# Altium integrated library TI Amplifiers and Linear Operational Amplifier High Speed.IntLib: 1100 symbols (part 22 of 44)
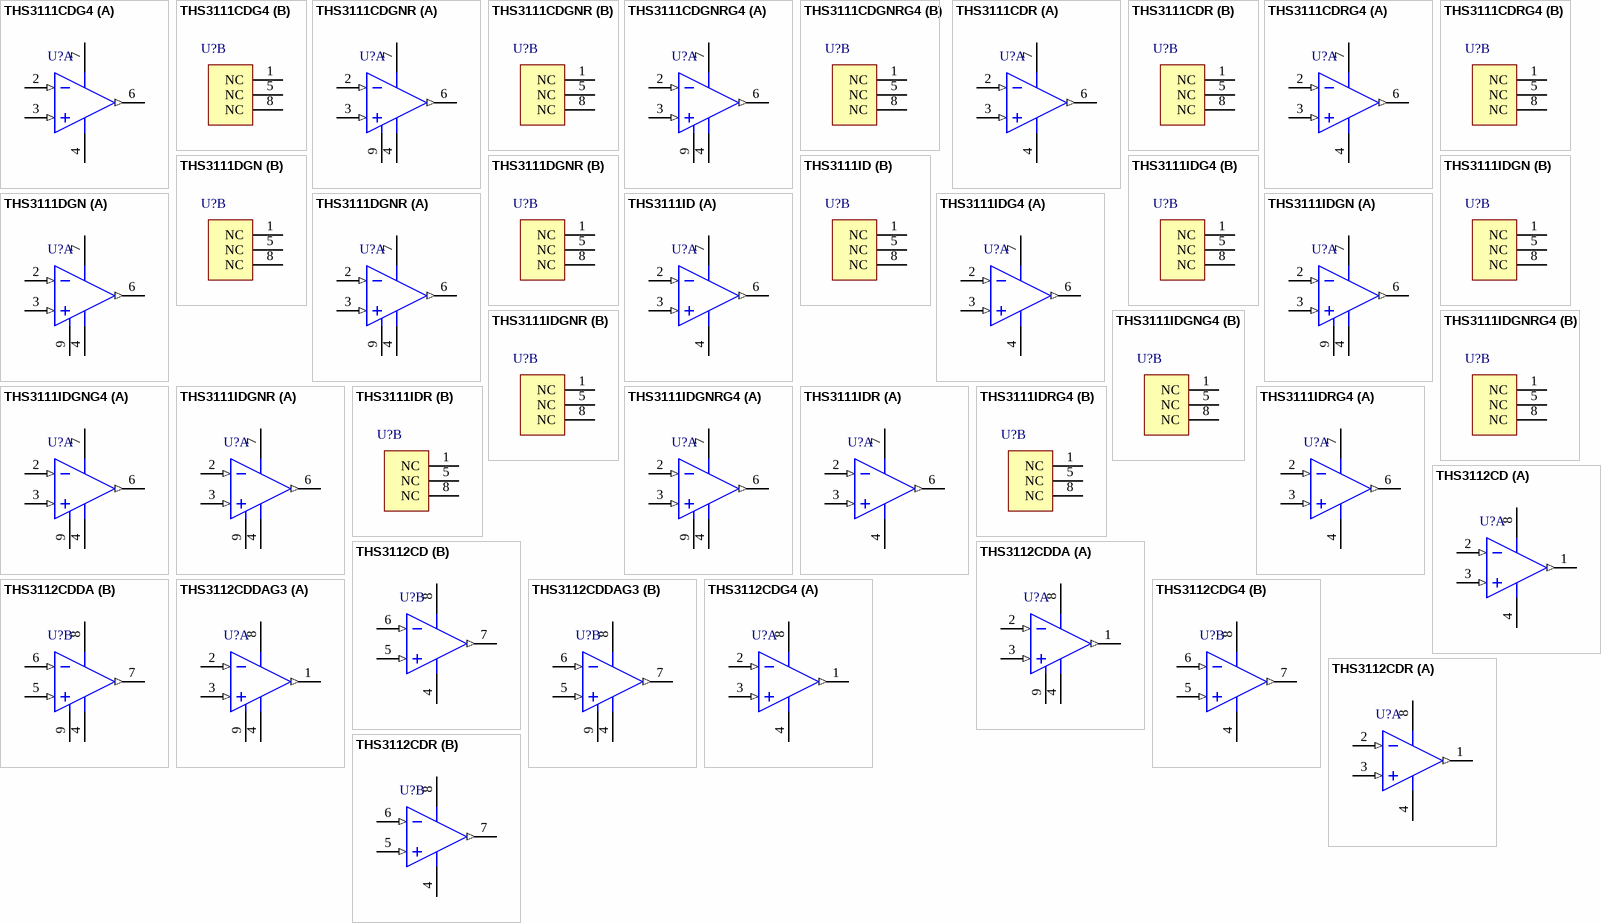
[diagram p72: symbols THS3111CDG4 to THS3112CDR]

## THS3111CDG4
designator U?
Single, Low Noise, High Voltage Current-Feedback Amplifier, 10 to 30 V, 0 to 70 degC, 8-pin SOIC (D8), Green (RoHS & no Sb/Br); Manufacturer: Texas Instruments; PartNumber: THS3111CDG4; 2nd Harmonic(dBc): 52; 3rd Harmonic(dBc): 48; @ MHz: 10; Acl, min stable gain(V/V): 1; BW @ Acl(MHz): 100; Diff Gain(%): 0.011; Diff Phase(deg): 0.029; Iib(Max)(nA): 6000; Io(Typ)(mA): 260; Iq per channel(Max)(mA): 7.5; Settling Time (0.1%)(Typ)(ns): 250; Slew Rate(Typ)(V/us): 1300; Sub Family: High Output Current Amplifier (>=50mA), High Speed Amplifier (>=50MHz), High Supply Voltage Amplifier (>=30V); THD (Fc is 1 MHz)(Typ)(dB): -78; Vio(Max)(mV): 8; Vn at Flatband(Typ)(nV/rtHz): 3; Vs(Max)(V): 30; DatasheetVersion: SLOS422E; PackageVersion: 4040047-3/M, 06/2011; PackageReference: D8; PackageDescription: 8-Pin Plastic Small Outline, Body 4.9 x 3.9 mm, Pitch 1.27 mm; Supplier 1: Digi-Key; Supplier Part Number 1: THS3111CDG4-ND; Supplier 2: Mouser; Supplier Part Number 2: 595-THS3111CDG4; Eco-Plan: Green (RoHS & no Sb/Br); Number of Channels: 1; Vs(Min)(V): 10; Mounting Technology: Surface Mount; Code_JEDEC: MS-012; ComponentLink1Description: Manufacturer URL; ComponentLink1URL: http://www.ti.com/; ComponentLink2Description: Datasheet; ComponentLink2URL: http://www.ti.com/general/docs/lit/getliterature.tsp?genericPartNumber=THS3111&fileType=pdf; ComponentLink3Description: Package Specification; ComponentLink3URL: http://www.ti.com/litv/pdf/msoi002j
footprint TI-D8_N (SOIC, 8-Leads, Body 4.9x3.9mm, Pitch 1.27mm, IPC Medium Density)
footprint TI-D8_L (SOIC, 8-Leads, Body 4.9x3.9mm, Pitch 1.27mm, IPC High Density)
footprint TI-D8_M (SOIC, 8-Leads, Body 4.9x3.9mm, Pitch 1.27mm, IPC Low Density)
part A pins: 2 VIN- (in), 3 VIN+ (in), 4 VS- (power), 6 VOUT (out), 7 VS+ (power)
part B pins: 1 NC, 5 NC, 8 NC

## THS3111CDGNR
designator U?
Single, Low Noise, High Voltage Current-Feedback Amplifier, 10 to 30 V, 0 to 70 degC, 8-pin SOP (DGN8), Green (RoHS & no Sb/Br); Manufacturer: Texas Instruments; PartNumber: THS3111CDGNR; 2nd Harmonic(dBc): 52; 3rd Harmonic(dBc): 48; @ MHz: 10; Acl, min stable gain(V/V): 1; BW @ Acl(MHz): 100; Diff Gain(%): 0.011; Diff Phase(deg): 0.029; Iib(Max)(nA): 6000; Io(Typ)(mA): 260; Iq per channel(Max)(mA): 7.5; Settling Time (0.1%)(Typ)(ns): 250; Slew Rate(Typ)(V/us): 1300; Sub Family: High Output Current Amplifier (>=50mA), High Speed Amplifier (>=50MHz), High Supply Voltage Amplifier (>=30V); THD (Fc is 1 MHz)(Typ)(dB): -78; Vio(Max)(mV): 8; Vn at Flatband(Typ)(nV/rtHz): 3; Vs(Max)(V): 30; DatasheetVersion: SLOS422E; PackageVersion: 4073271/F, 05/2011; PackageReference: DGN8-1760X1425TP; PackageDescription: 8-pin Plastic Small Outline, Body 3 x 3 mm, Pitch 0.65 mm; Supplier 1: Digi-Key; Supplier Part Number 1: THS3111CDGNR-ND; Supplier 2: Mouser; Supplier Part Number 2: 595-THS3111CDGNR; Eco-Plan: Green (RoHS & no Sb/Br); Number of Channels: 1; Vs(Min)(V): 10; Mounting Technology: Surface Mount; Code_JEDEC: MO-187; ComponentLink1Description: Manufacturer URL; ComponentLink1URL: http://www.ti.com/; ComponentLink2Description: Datasheet; ComponentLink2URL: http://www.ti.com/general/docs/lit/getliterature.tsp?genericPartNumber=THS3111&fileType=pdf; ComponentLink3Description: Package Specification; ComponentLink3URL: http://www.ti.com/litv/pdf/mpds046e
footprint TI-DGN8-1760X1425TP_N (SOP, 8-Leads, Body 3x3mm, Pitch 0.65mm, Thermal Pad 1.76x1.425mm, IPC Medium Density)
footprint TI-DGN8-1760X1425TP_L (SOP, 8-Leads, Body 3x3mm, Pitch 0.65mm, Thermal Pad 1.76x1.425mm, IPC High Density)
footprint TI-DGN8-1760X1425TP_M (SOP, 8-Leads, Body 3x3mm, Pitch 0.65mm, Thermal Pad 1.76 x 1.425 mm, IPC Low Density)
part A pins: 2 VIN- (in), 3 VIN+ (in), 4 VS- (power), 6 VOUT (out), 7 VS+ (power), 9 EP (power)
part B pins: 1 NC, 5 NC, 8 NC

## THS3111CDGNRG4
designator U?
Single, Low Noise, High Voltage Current-Feedback Amplifier, 10 to 30 V, 0 to 70 degC, 8-pin SOP (DGN8), Green (RoHS & no Sb/Br); Manufacturer: Texas Instruments; PartNumber: THS3111CDGNRG4; 2nd Harmonic(dBc): 52; 3rd Harmonic(dBc): 48; @ MHz: 10; Acl, min stable gain(V/V): 1; BW @ Acl(MHz): 100; Diff Gain(%): 0.011; Diff Phase(deg): 0.029; Iib(Max)(nA): 6000; Io(Typ)(mA): 260; Iq per channel(Max)(mA): 7.5; Settling Time (0.1%)(Typ)(ns): 250; Slew Rate(Typ)(V/us): 1300; Sub Family: High Output Current Amplifier (>=50mA), High Speed Amplifier (>=50MHz), High Supply Voltage Amplifier (>=30V); THD (Fc is 1 MHz)(Typ)(dB): -78; Vio(Max)(mV): 8; Vn at Flatband(Typ)(nV/rtHz): 3; Vs(Max)(V): 30; DatasheetVersion: SLOS422E; PackageVersion: 4073271/F, 05/2011; PackageReference: DGN8-1760X1425TP; PackageDescription: 8-pin Plastic Small Outline, Body 3 x 3 mm, Pitch 0.65 mm; Supplier 1: Digi-Key; Supplier Part Number 1: THS3111CDGNRG4-ND; Supplier 2: Mouser; Supplier Part Number 2: 595-THS3111CDGNRG4; Eco-Plan: Green (RoHS & no Sb/Br); Number of Channels: 1; Vs(Min)(V): 10; Mounting Technology: Surface Mount; Code_JEDEC: MO-187; ComponentLink1Description: Manufacturer URL; ComponentLink1URL: http://www.ti.com/; ComponentLink2Description: Datasheet; ComponentLink2URL: http://www.ti.com/general/docs/lit/getliterature.tsp?genericPartNumber=THS3111&fileType=pdf; ComponentLink3Description: Package Specification; ComponentLink3URL: http://www.ti.com/litv/pdf/mpds046e
footprint TI-DGN8-1760X1425TP_N (SOP, 8-Leads, Body 3x3mm, Pitch 0.65mm, Thermal Pad 1.76x1.425mm, IPC Medium Density)
footprint TI-DGN8-1760X1425TP_L (SOP, 8-Leads, Body 3x3mm, Pitch 0.65mm, Thermal Pad 1.76x1.425mm, IPC High Density)
footprint TI-DGN8-1760X1425TP_M (SOP, 8-Leads, Body 3x3mm, Pitch 0.65mm, Thermal Pad 1.76 x 1.425 mm, IPC Low Density)
part A pins: 2 VIN- (in), 3 VIN+ (in), 4 VS- (power), 6 VOUT (out), 7 VS+ (power), 9 EP (power)
part B pins: 1 NC, 5 NC, 8 NC

## THS3111CDR
designator U?
Single, Low Noise, High Voltage Current-Feedback Amplifier, 10 to 30 V, 0 to 70 degC, 8-pin SOIC (D8), Green (RoHS & no Sb/Br); Manufacturer: Texas Instruments; PartNumber: THS3111CDR; 2nd Harmonic(dBc): 52; 3rd Harmonic(dBc): 48; @ MHz: 10; Acl, min stable gain(V/V): 1; BW @ Acl(MHz): 100; Diff Gain(%): 0.011; Diff Phase(deg): 0.029; Iib(Max)(nA): 6000; Io(Typ)(mA): 260; Iq per channel(Max)(mA): 7.5; Settling Time (0.1%)(Typ)(ns): 250; Slew Rate(Typ)(V/us): 1300; Sub Family: High Output Current Amplifier (>=50mA), High Speed Amplifier (>=50MHz), High Supply Voltage Amplifier (>=30V); THD (Fc is 1 MHz)(Typ)(dB): -78; Vio(Max)(mV): 8; Vn at Flatband(Typ)(nV/rtHz): 3; Vs(Max)(V): 30; DatasheetVersion: SLOS422E; PackageVersion: 4040047-3/M, 06/2011; PackageReference: D8; PackageDescription: 8-Pin Plastic Small Outline, Body 4.9 x 3.9 mm, Pitch 1.27 mm; Supplier 1: Digi-Key; Supplier Part Number 1: THS3111CDR-ND; Supplier 2: Mouser; Supplier Part Number 2: 595-THS3111CDR; Eco-Plan: Green (RoHS & no Sb/Br); Number of Channels: 1; Vs(Min)(V): 10; Mounting Technology: Surface Mount; Code_JEDEC: MS-012; ComponentLink1Description: Manufacturer URL; ComponentLink1URL: http://www.ti.com/; ComponentLink2Description: Datasheet; ComponentLink2URL: http://www.ti.com/general/docs/lit/getliterature.tsp?genericPartNumber=THS3111&fileType=pdf; ComponentLink3Description: Package Specification; ComponentLink3URL: http://www.ti.com/litv/pdf/msoi002j
footprint TI-D8_N (SOIC, 8-Leads, Body 4.9x3.9mm, Pitch 1.27mm, IPC Medium Density)
footprint TI-D8_L (SOIC, 8-Leads, Body 4.9x3.9mm, Pitch 1.27mm, IPC High Density)
footprint TI-D8_M (SOIC, 8-Leads, Body 4.9x3.9mm, Pitch 1.27mm, IPC Low Density)
part A pins: 2 VIN- (in), 3 VIN+ (in), 4 VS- (power), 6 VOUT (out), 7 VS+ (power)
part B pins: 1 NC, 5 NC, 8 NC

## THS3111CDRG4
designator U?
Single, Low Noise, High Voltage Current-Feedback Amplifier, 10 to 30 V, 0 to 70 degC, 8-pin SOIC (D8), Green (RoHS & no Sb/Br); Manufacturer: Texas Instruments; PartNumber: THS3111CDRG4; 2nd Harmonic(dBc): 52; 3rd Harmonic(dBc): 48; @ MHz: 10; Acl, min stable gain(V/V): 1; BW @ Acl(MHz): 100; Diff Gain(%): 0.011; Diff Phase(deg): 0.029; Iib(Max)(nA): 6000; Io(Typ)(mA): 260; Iq per channel(Max)(mA): 7.5; Settling Time (0.1%)(Typ)(ns): 250; Slew Rate(Typ)(V/us): 1300; Sub Family: High Output Current Amplifier (>=50mA), High Speed Amplifier (>=50MHz), High Supply Voltage Amplifier (>=30V); THD (Fc is 1 MHz)(Typ)(dB): -78; Vio(Max)(mV): 8; Vn at Flatband(Typ)(nV/rtHz): 3; Vs(Max)(V): 30; DatasheetVersion: SLOS422E; PackageVersion: 4040047-3/M, 06/2011; PackageReference: D8; PackageDescription: 8-Pin Plastic Small Outline, Body 4.9 x 3.9 mm, Pitch 1.27 mm; Supplier 1: Digi-Key; Supplier Part Number 1: THS3111CDRG4-ND; Supplier 2: Mouser; Supplier Part Number 2: 595-THS3111CDRG4; Eco-Plan: Green (RoHS & no Sb/Br); Number of Channels: 1; Vs(Min)(V): 10; Mounting Technology: Surface Mount; Code_JEDEC: MS-012; ComponentLink1Description: Manufacturer URL; ComponentLink1URL: http://www.ti.com/; ComponentLink2Description: Datasheet; ComponentLink2URL: http://www.ti.com/general/docs/lit/getliterature.tsp?genericPartNumber=THS3111&fileType=pdf; ComponentLink3Description: Package Specification; ComponentLink3URL: http://www.ti.com/litv/pdf/msoi002j
footprint TI-D8_N (SOIC, 8-Leads, Body 4.9x3.9mm, Pitch 1.27mm, IPC Medium Density)
footprint TI-D8_L (SOIC, 8-Leads, Body 4.9x3.9mm, Pitch 1.27mm, IPC High Density)
footprint TI-D8_M (SOIC, 8-Leads, Body 4.9x3.9mm, Pitch 1.27mm, IPC Low Density)
part A pins: 2 VIN- (in), 3 VIN+ (in), 4 VS- (power), 6 VOUT (out), 7 VS+ (power)
part B pins: 1 NC, 5 NC, 8 NC

## THS3111DGN
designator U?
Single, Low Noise, High Voltage Current-Feedback Amplifier, 10 to 30 V, -40 to 85 degC, 8-pin SOP (DGN8); Manufacturer: Texas Instruments; PartNumber: THS3111DGN; 2nd Harmonic(dBc): 52; 3rd Harmonic(dBc): 48; @ MHz: 10; Acl, min stable gain(V/V): 1; BW @ Acl(MHz): 100; Diff Gain(%): 0.011; Diff Phase(deg): 0.029; Iib(Max)(nA): 6000; Io(Typ)(mA): 260; Iq per channel(Max)(mA): 7.5; Settling Time (0.1%)(Typ)(ns): 250; Slew Rate(Typ)(V/us): 1300; Sub Family: High Output Current Amplifier (>=50mA), High Speed Amplifier (>=50MHz), High Supply Voltage Amplifier (>=30V); THD (Fc is 1 MHz)(Typ)(dB): -78; Vio(Max)(mV): 8; Vn at Flatband(Typ)(nV/rtHz): 3; Vs(Max)(V): 30; DatasheetVersion: SLOS422E; PackageVersion: 4073271/F, 05/2011; PackageReference: DGN8-1760X1425TP; PackageDescription: 8-pin Plastic Small Outline, Body 3 x 3 mm, Pitch 0.65 mm; Supplier 1: Mouser; Supplier Part Number 1: N/A; Number of Channels: 1; Vs(Min)(V): 10; Mounting Technology: Surface Mount; Code_JEDEC: MO-187; ComponentLink1Description: Manufacturer URL; ComponentLink1URL: http://www.ti.com/; ComponentLink2Description: Datasheet; ComponentLink2URL: http://www.ti.com/general/docs/lit/getliterature.tsp?genericPartNumber=THS3111&fileType=pdf; ComponentLink3Description: Package Specification; ComponentLink3URL: http://www.ti.com/litv/pdf/mpds046e
footprint TI-DGN8-1760X1425TP_N (SOP, 8-Leads, Body 3x3mm, Pitch 0.65mm, Thermal Pad 1.76x1.425mm, IPC Medium Density)
footprint TI-DGN8-1760X1425TP_L (SOP, 8-Leads, Body 3x3mm, Pitch 0.65mm, Thermal Pad 1.76x1.425mm, IPC High Density)
footprint TI-DGN8-1760X1425TP_M (SOP, 8-Leads, Body 3x3mm, Pitch 0.65mm, Thermal Pad 1.76 x 1.425 mm, IPC Low Density)
part A pins: 2 VIN- (in), 3 VIN+ (in), 4 VS- (power), 6 VOUT (out), 7 VS+ (power), 9 EP (power)
part B pins: 1 NC, 5 NC, 8 NC

## THS3111DGNR
designator U?
Single, Low Noise, High Voltage Current-Feedback Amplifier, 10 to 30 V, -40 to 85 degC, 8-pin SOP (DGN8); Manufacturer: Texas Instruments; PartNumber: THS3111DGNR; 2nd Harmonic(dBc): 52; 3rd Harmonic(dBc): 48; @ MHz: 10; Acl, min stable gain(V/V): 1; BW @ Acl(MHz): 100; Diff Gain(%): 0.011; Diff Phase(deg): 0.029; Iib(Max)(nA): 6000; Io(Typ)(mA): 260; Iq per channel(Max)(mA): 7.5; Settling Time (0.1%)(Typ)(ns): 250; Slew Rate(Typ)(V/us): 1300; Sub Family: High Output Current Amplifier (>=50mA), High Speed Amplifier (>=50MHz), High Supply Voltage Amplifier (>=30V); THD (Fc is 1 MHz)(Typ)(dB): -78; Vio(Max)(mV): 8; Vn at Flatband(Typ)(nV/rtHz): 3; Vs(Max)(V): 30; DatasheetVersion: SLOS422E; PackageVersion: 4073271/F, 05/2011; PackageReference: DGN8-1760X1425TP; PackageDescription: 8-pin Plastic Small Outline, Body 3 x 3 mm, Pitch 0.65 mm; Supplier 1: Mouser; Supplier Part Number 1: N/A; Number of Channels: 1; Vs(Min)(V): 10; Mounting Technology: Surface Mount; Code_JEDEC: MO-187; ComponentLink1Description: Manufacturer URL; ComponentLink1URL: http://www.ti.com/; ComponentLink2Description: Datasheet; ComponentLink2URL: http://www.ti.com/general/docs/lit/getliterature.tsp?genericPartNumber=THS3111&fileType=pdf; ComponentLink3Description: Package Specification; ComponentLink3URL: http://www.ti.com/litv/pdf/mpds046e
footprint TI-DGN8-1760X1425TP_N (SOP, 8-Leads, Body 3x3mm, Pitch 0.65mm, Thermal Pad 1.76x1.425mm, IPC Medium Density)
footprint TI-DGN8-1760X1425TP_L (SOP, 8-Leads, Body 3x3mm, Pitch 0.65mm, Thermal Pad 1.76x1.425mm, IPC High Density)
footprint TI-DGN8-1760X1425TP_M (SOP, 8-Leads, Body 3x3mm, Pitch 0.65mm, Thermal Pad 1.76 x 1.425 mm, IPC Low Density)
part A pins: 2 VIN- (in), 3 VIN+ (in), 4 VS- (power), 6 VOUT (out), 7 VS+ (power), 9 EP (power)
part B pins: 1 NC, 5 NC, 8 NC

## THS3111ID
designator U?
Single, Low Noise, High Voltage Current-Feedback Amplifier, 10 to 30 V, -40 to 85 degC, 8-pin SOIC (D8), Green (RoHS & no Sb/Br); Manufacturer: Texas Instruments; PartNumber: THS3111ID; 2nd Harmonic(dBc): 52; 3rd Harmonic(dBc): 48; @ MHz: 10; Acl, min stable gain(V/V): 1; BW @ Acl(MHz): 100; Diff Gain(%): 0.011; Diff Phase(deg): 0.029; Iib(Max)(nA): 6000; Io(Typ)(mA): 260; Iq per channel(Max)(mA): 7.5; Settling Time (0.1%)(Typ)(ns): 250; Slew Rate(Typ)(V/us): 1300; Sub Family: High Output Current Amplifier (>=50mA), High Speed Amplifier (>=50MHz), High Supply Voltage Amplifier (>=30V); THD (Fc is 1 MHz)(Typ)(dB): -78; Vio(Max)(mV): 8; Vn at Flatband(Typ)(nV/rtHz): 3; Vs(Max)(V): 30; DatasheetVersion: SLOS422E; PackageVersion: 4040047-3/M, 06/2011; PackageReference: D8; PackageDescription: 8-Pin Plastic Small Outline, Body 4.9 x 3.9 mm, Pitch 1.27 mm; Supplier 1: Digi-Key; Supplier Part Number 1: 296-15770-5-ND; Supplier 2: Farnell; Supplier Part Number 2: 1534759; Supplier 3: Newark; Supplier Part Number 3: 87H2778; Supplier 4: Mouser; Supplier Part Number 4: 595-THS3111ID; Eco-Plan: Green (RoHS & no Sb/Br); Number of Channels: 1; Vs(Min)(V): 10; Mounting Technology: Surface Mount; Code_JEDEC: MS-012; ComponentLink1Description: Manufacturer URL; ComponentLink1URL: http://www.ti.com/; ComponentLink2Description: Datasheet; ComponentLink2URL: http://www.ti.com/general/docs/lit/getliterature.tsp?genericPartNumber=THS3111&fileType=pdf; ComponentLink3Description: Package Specification; ComponentLink3URL: http://www.ti.com/litv/pdf/msoi002j
footprint TI-D8_N (SOIC, 8-Leads, Body 4.9x3.9mm, Pitch 1.27mm, IPC Medium Density)
footprint TI-D8_L (SOIC, 8-Leads, Body 4.9x3.9mm, Pitch 1.27mm, IPC High Density)
footprint TI-D8_M (SOIC, 8-Leads, Body 4.9x3.9mm, Pitch 1.27mm, IPC Low Density)
part A pins: 2 VIN- (in), 3 VIN+ (in), 4 VS- (power), 6 VOUT (out), 7 VS+ (power)
part B pins: 1 NC, 5 NC, 8 NC

## THS3111IDG4
designator U?
Single, Low Noise, High Voltage Current-Feedback Amplifier, 10 to 30 V, -40 to 85 degC, 8-pin SOIC (D8), Green (RoHS & no Sb/Br); Manufacturer: Texas Instruments; PartNumber: THS3111IDG4; 2nd Harmonic(dBc): 52; 3rd Harmonic(dBc): 48; @ MHz: 10; Acl, min stable gain(V/V): 1; BW @ Acl(MHz): 100; Diff Gain(%): 0.011; Diff Phase(deg): 0.029; Iib(Max)(nA): 6000; Io(Typ)(mA): 260; Iq per channel(Max)(mA): 7.5; Settling Time (0.1%)(Typ)(ns): 250; Slew Rate(Typ)(V/us): 1300; Sub Family: High Output Current Amplifier (>=50mA), High Speed Amplifier (>=50MHz), High Supply Voltage Amplifier (>=30V); THD (Fc is 1 MHz)(Typ)(dB): -78; Vio(Max)(mV): 8; Vn at Flatband(Typ)(nV/rtHz): 3; Vs(Max)(V): 30; DatasheetVersion: SLOS422E; PackageVersion: 4040047-3/M, 06/2011; PackageReference: D8; PackageDescription: 8-Pin Plastic Small Outline, Body 4.9 x 3.9 mm, Pitch 1.27 mm; Supplier 1: Digi-Key; Supplier Part Number 1: THS3111IDG4-ND; Supplier 2: Mouser; Supplier Part Number 2: 595-THS3111IDG4; Eco-Plan: Green (RoHS & no Sb/Br); Number of Channels: 1; Vs(Min)(V): 10; Mounting Technology: Surface Mount; Code_JEDEC: MS-012; ComponentLink1Description: Manufacturer URL; ComponentLink1URL: http://www.ti.com/; ComponentLink2Description: Datasheet; ComponentLink2URL: http://www.ti.com/general/docs/lit/getliterature.tsp?genericPartNumber=THS3111&fileType=pdf; ComponentLink3Description: Package Specification; ComponentLink3URL: http://www.ti.com/litv/pdf/msoi002j
footprint TI-D8_N (SOIC, 8-Leads, Body 4.9x3.9mm, Pitch 1.27mm, IPC Medium Density)
footprint TI-D8_L (SOIC, 8-Leads, Body 4.9x3.9mm, Pitch 1.27mm, IPC High Density)
footprint TI-D8_M (SOIC, 8-Leads, Body 4.9x3.9mm, Pitch 1.27mm, IPC Low Density)
part A pins: 2 VIN- (in), 3 VIN+ (in), 4 VS- (power), 6 VOUT (out), 7 VS+ (power)
part B pins: 1 NC, 5 NC, 8 NC

## THS3111IDGN
designator U?
Single, Low Noise, High Voltage Current-Feedback Amplifier, 10 to 30 V, -40 to 85 degC, 8-pin SOP (DGN8), Green (RoHS & no Sb/Br); Manufacturer: Texas Instruments; PartNumber: THS3111IDGN; 2nd Harmonic(dBc): 52; 3rd Harmonic(dBc): 48; @ MHz: 10; Acl, min stable gain(V/V): 1; BW @ Acl(MHz): 100; Diff Gain(%): 0.011; Diff Phase(deg): 0.029; Iib(Max)(nA): 6000; Io(Typ)(mA): 260; Iq per channel(Max)(mA): 7.5; Settling Time (0.1%)(Typ)(ns): 250; Slew Rate(Typ)(V/us): 1300; Sub Family: High Output Current Amplifier (>=50mA), High Speed Amplifier (>=50MHz), High Supply Voltage Amplifier (>=30V); THD (Fc is 1 MHz)(Typ)(dB): -78; Vio(Max)(mV): 8; Vn at Flatband(Typ)(nV/rtHz): 3; Vs(Max)(V): 30; DatasheetVersion: SLOS422E; PackageVersion: 4073271/F, 05/2011; PackageReference: DGN8-1760X1425TP; PackageDescription: 8-pin Plastic Small Outline, Body 3 x 3 mm, Pitch 0.65 mm; Supplier 1: Digi-Key; Supplier Part Number 1: 296-15771-5-ND; Supplier 2: Newark; Supplier Part Number 2: 87H2779; Supplier 3: Mouser; Supplier Part Number 3: 595-THS3111IDGN; Eco-Plan: Green (RoHS & no Sb/Br); Number of Channels: 1; Vs(Min)(V): 10; Mounting Technology: Surface Mount; Code_JEDEC: MO-187; ComponentLink1Description: Manufacturer URL; ComponentLink1URL: http://www.ti.com/; ComponentLink2Description: Datasheet; ComponentLink2URL: http://www.ti.com/general/docs/lit/getliterature.tsp?genericPartNumber=THS3111&fileType=pdf; ComponentLink3Description: Package Specification; ComponentLink3URL: http://www.ti.com/litv/pdf/mpds046e
footprint TI-DGN8-1760X1425TP_N (SOP, 8-Leads, Body 3x3mm, Pitch 0.65mm, Thermal Pad 1.76x1.425mm, IPC Medium Density)
footprint TI-DGN8-1760X1425TP_L (SOP, 8-Leads, Body 3x3mm, Pitch 0.65mm, Thermal Pad 1.76x1.425mm, IPC High Density)
footprint TI-DGN8-1760X1425TP_M (SOP, 8-Leads, Body 3x3mm, Pitch 0.65mm, Thermal Pad 1.76 x 1.425 mm, IPC Low Density)
part A pins: 2 VIN- (in), 3 VIN+ (in), 4 VS- (power), 6 VOUT (out), 7 VS+ (power), 9 EP (power)
part B pins: 1 NC, 5 NC, 8 NC

## THS3111IDGNG4
designator U?
Single, Low Noise, High Voltage Current-Feedback Amplifier, 10 to 30 V, -40 to 85 degC, 8-pin SOP (DGN8), Green (RoHS & no Sb/Br); Manufacturer: Texas Instruments; PartNumber: THS3111IDGNG4; 2nd Harmonic(dBc): 52; 3rd Harmonic(dBc): 48; @ MHz: 10; Acl, min stable gain(V/V): 1; BW @ Acl(MHz): 100; Diff Gain(%): 0.011; Diff Phase(deg): 0.029; Iib(Max)(nA): 6000; Io(Typ)(mA): 260; Iq per channel(Max)(mA): 7.5; Settling Time (0.1%)(Typ)(ns): 250; Slew Rate(Typ)(V/us): 1300; Sub Family: High Output Current Amplifier (>=50mA), High Speed Amplifier (>=50MHz), High Supply Voltage Amplifier (>=30V); THD (Fc is 1 MHz)(Typ)(dB): -78; Vio(Max)(mV): 8; Vn at Flatband(Typ)(nV/rtHz): 3; Vs(Max)(V): 30; DatasheetVersion: SLOS422E; PackageVersion: 4073271/F, 05/2011; PackageReference: DGN8-1760X1425TP; PackageDescription: 8-pin Plastic Small Outline, Body 3 x 3 mm, Pitch 0.65 mm; Supplier 1: Digi-Key; Supplier Part Number 1: THS3111IDGNG4-ND; Supplier 2: Mouser; Supplier Part Number 2: 595-THS3111IDGNG4; Eco-Plan: Green (RoHS & no Sb/Br); Number of Channels: 1; Vs(Min)(V): 10; Mounting Technology: Surface Mount; Code_JEDEC: MO-187; ComponentLink1Description: Manufacturer URL; ComponentLink1URL: http://www.ti.com/; ComponentLink2Description: Datasheet; ComponentLink2URL: http://www.ti.com/general/docs/lit/getliterature.tsp?genericPartNumber=THS3111&fileType=pdf; ComponentLink3Description: Package Specification; ComponentLink3URL: http://www.ti.com/litv/pdf/mpds046e
footprint TI-DGN8-1760X1425TP_N (SOP, 8-Leads, Body 3x3mm, Pitch 0.65mm, Thermal Pad 1.76x1.425mm, IPC Medium Density)
footprint TI-DGN8-1760X1425TP_L (SOP, 8-Leads, Body 3x3mm, Pitch 0.65mm, Thermal Pad 1.76x1.425mm, IPC High Density)
footprint TI-DGN8-1760X1425TP_M (SOP, 8-Leads, Body 3x3mm, Pitch 0.65mm, Thermal Pad 1.76 x 1.425 mm, IPC Low Density)
part A pins: 2 VIN- (in), 3 VIN+ (in), 4 VS- (power), 6 VOUT (out), 7 VS+ (power), 9 EP (power)
part B pins: 1 NC, 5 NC, 8 NC

## THS3111IDGNR
designator U?
Single, Low Noise, High Voltage Current-Feedback Amplifier, 10 to 30 V, -40 to 85 degC, 8-pin SOP (DGN8), Green (RoHS & no Sb/Br); Manufacturer: Texas Instruments; PartNumber: THS3111IDGNR; 2nd Harmonic(dBc): 52; 3rd Harmonic(dBc): 48; @ MHz: 10; Acl, min stable gain(V/V): 1; BW @ Acl(MHz): 100; Diff Gain(%): 0.011; Diff Phase(deg): 0.029; Iib(Max)(nA): 6000; Io(Typ)(mA): 260; Iq per channel(Max)(mA): 7.5; Settling Time (0.1%)(Typ)(ns): 250; Slew Rate(Typ)(V/us): 1300; Sub Family: High Output Current Amplifier (>=50mA), High Speed Amplifier (>=50MHz), High Supply Voltage Amplifier (>=30V); THD (Fc is 1 MHz)(Typ)(dB): -78; Vio(Max)(mV): 8; Vn at Flatband(Typ)(nV/rtHz): 3; Vs(Max)(V): 30; DatasheetVersion: SLOS422E; PackageVersion: 4073271/F, 05/2011; PackageReference: DGN8-1760X1425TP; PackageDescription: 8-pin Plastic Small Outline, Body 3 x 3 mm, Pitch 0.65 mm; Supplier 1: Digi-Key; Supplier Part Number 1: THS3111IDGNR-ND; Supplier 2: Mouser; Supplier Part Number 2: 595-THS3111IDGNR; Eco-Plan: Green (RoHS & no Sb/Br); Number of Channels: 1; Vs(Min)(V): 10; Mounting Technology: Surface Mount; Code_JEDEC: MO-187; ComponentLink1Description: Manufacturer URL; ComponentLink1URL: http://www.ti.com/; ComponentLink2Description: Datasheet; ComponentLink2URL: http://www.ti.com/general/docs/lit/getliterature.tsp?genericPartNumber=THS3111&fileType=pdf; ComponentLink3Description: Package Specification; ComponentLink3URL: http://www.ti.com/litv/pdf/mpds046e
footprint TI-DGN8-1760X1425TP_N (SOP, 8-Leads, Body 3x3mm, Pitch 0.65mm, Thermal Pad 1.76x1.425mm, IPC Medium Density)
footprint TI-DGN8-1760X1425TP_L (SOP, 8-Leads, Body 3x3mm, Pitch 0.65mm, Thermal Pad 1.76x1.425mm, IPC High Density)
footprint TI-DGN8-1760X1425TP_M (SOP, 8-Leads, Body 3x3mm, Pitch 0.65mm, Thermal Pad 1.76 x 1.425 mm, IPC Low Density)
part A pins: 2 VIN- (in), 3 VIN+ (in), 4 VS- (power), 6 VOUT (out), 7 VS+ (power), 9 EP (power)
part B pins: 1 NC, 5 NC, 8 NC

## THS3111IDGNRG4
designator U?
Single, Low Noise, High Voltage Current-Feedback Amplifier, 10 to 30 V, -40 to 85 degC, 8-pin SOP (DGN8), Green (RoHS & no Sb/Br); Manufacturer: Texas Instruments; PartNumber: THS3111IDGNRG4; 2nd Harmonic(dBc): 52; 3rd Harmonic(dBc): 48; @ MHz: 10; Acl, min stable gain(V/V): 1; BW @ Acl(MHz): 100; Diff Gain(%): 0.011; Diff Phase(deg): 0.029; Iib(Max)(nA): 6000; Io(Typ)(mA): 260; Iq per channel(Max)(mA): 7.5; Settling Time (0.1%)(Typ)(ns): 250; Slew Rate(Typ)(V/us): 1300; Sub Family: High Output Current Amplifier (>=50mA), High Speed Amplifier (>=50MHz), High Supply Voltage Amplifier (>=30V); THD (Fc is 1 MHz)(Typ)(dB): -78; Vio(Max)(mV): 8; Vn at Flatband(Typ)(nV/rtHz): 3; Vs(Max)(V): 30; DatasheetVersion: SLOS422E; PackageVersion: 4073271/F, 05/2011; PackageReference: DGN8-1760X1425TP; PackageDescription: 8-pin Plastic Small Outline, Body 3 x 3 mm, Pitch 0.65 mm; Supplier 1: Digi-Key; Supplier Part Number 1: THS3111IDGNRG4-ND; Supplier 2: Mouser; Supplier Part Number 2: 595-THS3111IDGNRG4; Eco-Plan: Green (RoHS & no Sb/Br); Number of Channels: 1; Vs(Min)(V): 10; Mounting Technology: Surface Mount; Code_JEDEC: MO-187; ComponentLink1Description: Manufacturer URL; ComponentLink1URL: http://www.ti.com/; ComponentLink2Description: Datasheet; ComponentLink2URL: http://www.ti.com/general/docs/lit/getliterature.tsp?genericPartNumber=THS3111&fileType=pdf; ComponentLink3Description: Package Specification; ComponentLink3URL: http://www.ti.com/litv/pdf/mpds046e
footprint TI-DGN8-1760X1425TP_N (SOP, 8-Leads, Body 3x3mm, Pitch 0.65mm, Thermal Pad 1.76x1.425mm, IPC Medium Density)
footprint TI-DGN8-1760X1425TP_L (SOP, 8-Leads, Body 3x3mm, Pitch 0.65mm, Thermal Pad 1.76x1.425mm, IPC High Density)
footprint TI-DGN8-1760X1425TP_M (SOP, 8-Leads, Body 3x3mm, Pitch 0.65mm, Thermal Pad 1.76 x 1.425 mm, IPC Low Density)
part A pins: 2 VIN- (in), 3 VIN+ (in), 4 VS- (power), 6 VOUT (out), 7 VS+ (power), 9 EP (power)
part B pins: 1 NC, 5 NC, 8 NC

## THS3111IDR
designator U?
Single, Low Noise, High Voltage Current-Feedback Amplifier, 10 to 30 V, -40 to 85 degC, 8-pin SOIC (D8), Green (RoHS & no Sb/Br); Manufacturer: Texas Instruments; PartNumber: THS3111IDR; 2nd Harmonic(dBc): 52; 3rd Harmonic(dBc): 48; @ MHz: 10; Acl, min stable gain(V/V): 1; BW @ Acl(MHz): 100; Diff Gain(%): 0.011; Diff Phase(deg): 0.029; Iib(Max)(nA): 6000; Io(Typ)(mA): 260; Iq per channel(Max)(mA): 7.5; Settling Time (0.1%)(Typ)(ns): 250; Slew Rate(Typ)(V/us): 1300; Sub Family: High Output Current Amplifier (>=50mA), High Speed Amplifier (>=50MHz), High Supply Voltage Amplifier (>=30V); THD (Fc is 1 MHz)(Typ)(dB): -78; Vio(Max)(mV): 8; Vn at Flatband(Typ)(nV/rtHz): 3; Vs(Max)(V): 30; DatasheetVersion: SLOS422E; PackageVersion: 4040047-3/M, 06/2011; PackageReference: D8; PackageDescription: 8-Pin Plastic Small Outline, Body 4.9 x 3.9 mm, Pitch 1.27 mm; Supplier 1: Digi-Key; Supplier Part Number 1: THS3111IDR-ND; Supplier 2: Mouser; Supplier Part Number 2: 595-THS3111IDR; Eco-Plan: Green (RoHS & no Sb/Br); Number of Channels: 1; Vs(Min)(V): 10; Mounting Technology: Surface Mount; Code_JEDEC: MS-012; ComponentLink1Description: Manufacturer URL; ComponentLink1URL: http://www.ti.com/; ComponentLink2Description: Datasheet; ComponentLink2URL: http://www.ti.com/general/docs/lit/getliterature.tsp?genericPartNumber=THS3111&fileType=pdf; ComponentLink3Description: Package Specification; ComponentLink3URL: http://www.ti.com/litv/pdf/msoi002j
footprint TI-D8_N (SOIC, 8-Leads, Body 4.9x3.9mm, Pitch 1.27mm, IPC Medium Density)
footprint TI-D8_L (SOIC, 8-Leads, Body 4.9x3.9mm, Pitch 1.27mm, IPC High Density)
footprint TI-D8_M (SOIC, 8-Leads, Body 4.9x3.9mm, Pitch 1.27mm, IPC Low Density)
part A pins: 2 VIN- (in), 3 VIN+ (in), 4 VS- (power), 6 VOUT (out), 7 VS+ (power)
part B pins: 1 NC, 5 NC, 8 NC

## THS3111IDRG4
designator U?
Single, Low Noise, High Voltage Current-Feedback Amplifier, 10 to 30 V, -40 to 85 degC, 8-pin SOIC (D8), Green (RoHS & no Sb/Br); Manufacturer: Texas Instruments; PartNumber: THS3111IDRG4; 2nd Harmonic(dBc): 52; 3rd Harmonic(dBc): 48; @ MHz: 10; Acl, min stable gain(V/V): 1; BW @ Acl(MHz): 100; Diff Gain(%): 0.011; Diff Phase(deg): 0.029; Iib(Max)(nA): 20000; Io(Typ)(mA): 260; Iq per channel(Max)(mA): 7.5; Settling Time (0.1%)(Typ)(ns): 27; Slew Rate(Typ)(V/us): 1300; Sub Family: High Output Current Amplifier (>=50mA), High Speed Amplifier (>=50MHz), High Supply Voltage Amplifier (>=30V); THD (Fc is 1 MHz)(Typ)(dB): -78; Vio(Max)(mV): 12; Vn at Flatband(Typ)(nV/rtHz): 3; Vs(Max)(V): 30; DatasheetVersion: SLOS422E; PackageVersion: 4040047-3/M, 06/2011; PackageReference: D8; PackageDescription: 8-Pin Plastic Small Outline, Body 4.9 x 3.9 mm, Pitch 1.27 mm; Supplier 1: Digi-Key; Supplier Part Number 1: THS3111IDRG4-ND; Supplier 2: Mouser; Supplier Part Number 2: 595-THS3111IDRG4; Eco-Plan: Green (RoHS & no Sb/Br); Number of Channels: 1; Vs(Min)(V): 10; Mounting Technology: Surface Mount; Code_JEDEC: MS-012; ComponentLink1Description: Manufacturer URL; ComponentLink1URL: http://www.ti.com/; ComponentLink2Description: Datasheet; ComponentLink2URL: http://www.ti.com/general/docs/lit/getliterature.tsp?genericPartNumber=THS3111&fileType=pdf; ComponentLink3Description: Package Specification; ComponentLink3URL: http://www.ti.com/litv/pdf/msoi002j
footprint TI-D8_N (SOIC, 8-Leads, Body 4.9x3.9mm, Pitch 1.27mm, IPC Medium Density)
footprint TI-D8_L (SOIC, 8-Leads, Body 4.9x3.9mm, Pitch 1.27mm, IPC High Density)
footprint TI-D8_M (SOIC, 8-Leads, Body 4.9x3.9mm, Pitch 1.27mm, IPC Low Density)
part A pins: 2 VIN- (in), 3 VIN+ (in), 4 VS- (power), 6 VOUT (out), 7 VS+ (power)
part B pins: 1 NC, 5 NC, 8 NC

## THS3112CD
designator U?
Dual, Low-Noise, High Output Current, 110 MHz Amplifier, 10 to 30 V, 0 to 70 degC, 8-pin SOIC (D8), Green (RoHS & no Sb/Br); Manufacturer: Texas Instruments; PartNumber: THS3112CD; 2nd Harmonic(dBc): 62; 3rd Harmonic(dBc): 48; @ MHz: 10; Acl, min stable gain(V/V): 1; BW @ Acl(MHz): 110; Diff Gain(%): 0.01; Diff Phase(deg): 0.011; Iib(Max)(nA): 3000; Io(Typ)(mA): 270; Iq per channel(Max)(mA): 7.5; Number of Channels: 2; Settling Time (0.1%)(Typ)(ns): 50; Slew Rate(Typ)(V/us): 1300; Sub Family: High Output Current Amplifier (>=50mA), High Speed Amplifier (>=50MHz), High Supply Voltage Amplifier (>=30V); THD (Fc is 1 MHz)(Typ)(dB): -77; Vio(Max)(mV): 8; Vn at Flatband(Typ)(nV/rtHz): 2.8; Vs(Max)(V): 30; DatasheetVersion: SLOS385C; PackageVersion: 4040047-3/M, 06/2011; PackageReference: D8; PackageDescription: 8-Pin Plastic Small Outline, Body 4.9 x 3.9 mm, Pitch 1.27 mm; Supplier 1: Digi-Key; Supplier Part Number 1: THS3112CD-ND; Supplier 2: Mouser; Supplier Part Number 2: 595-THS3112CD; Eco-Plan: Green (RoHS & no Sb/Br); Vs(Min)(V): 10; Mounting Technology: Surface Mount; Code_JEDEC: MS-012; ComponentLink1Description: Manufacturer URL; ComponentLink1URL: http://www.ti.com/; ComponentLink2Description: Datasheet; ComponentLink2URL: http://www.ti.com/general/docs/lit/getliterature.tsp?genericPartNumber=THS3112&fileType=pdf; ComponentLink3Description: Package Specification; ComponentLink3URL: http://www.ti.com/litv/pdf/msoi002j
footprint TI-D8_N (SOIC, 8-Leads, Body 4.9x3.9mm, Pitch 1.27mm, IPC Medium Density)
footprint TI-D8_L (SOIC, 8-Leads, Body 4.9x3.9mm, Pitch 1.27mm, IPC High Density)
footprint TI-D8_M (SOIC, 8-Leads, Body 4.9x3.9mm, Pitch 1.27mm, IPC Low Density)
pins on every part: 4 VCC- (power), 8 VCC+ (power)
part A pins: 1 OUT1 (out), 2 IN1- (in), 3 IN1+ (in)
part B pins: 5 IN2+ (in), 6 IN2- (in), 7 OUT2 (out)

## THS3112CDDA
designator U?
Dual, Low-Noise, High Output Current, 110 MHz Amplifier, 10 to 30 V, 0 to 70 degC, 8-pin SOP (DDA8), Green (RoHS & no Sb/Br); Manufacturer: Texas Instruments; PartNumber: THS3112CDDA; 2nd Harmonic(dBc): 62; 3rd Harmonic(dBc): 48; @ MHz: 10; Acl, min stable gain(V/V): 1; BW @ Acl(MHz): 110; Diff Gain(%): 0.01; Diff Phase(deg): 0.011; Iib(Max)(nA): 3000; Io(Typ)(mA): 270; Iq per channel(Max)(mA): 7.5; Number of Channels: 2; Settling Time (0.1%)(Typ)(ns): 50; Slew Rate(Typ)(V/us): 1300; Sub Family: High Output Current Amplifier (>=50mA), High Speed Amplifier (>=50MHz), High Supply Voltage Amplifier (>=30V); THD (Fc is 1 MHz)(Typ)(dB): -77; Vio(Max)(mV): 8; Vn at Flatband(Typ)(nV/rtHz): 2.8; Vs(Max)(V): 30; DatasheetVersion: SLOS385C; PackageVersion: 4202561/F, 12/2011; PackageReference: DDA8-3025X2335TP; PackageDescription: 8-Pin PowerPAD(TM) Plastic Small Outline, Body 4.9 x 3.9 mm, Pitch 1.27 mm; Supplier 1: Digi-Key; Supplier Part Number 1: THS3112CDDA-ND; Supplier 2: Mouser; Supplier Part Number 2: 595-THS3112CDDA; Eco-Plan: Green (RoHS & no Sb/Br); Vs(Min)(V): 10; Mounting Technology: Surface Mount; Code_JEDEC: MS-012; ComponentLink1Description: Manufacturer URL; ComponentLink1URL: http://www.ti.com/; ComponentLink2Description: Datasheet; ComponentLink2URL: http://www.ti.com/general/docs/lit/getliterature.tsp?genericPartNumber=THS3112&fileType=pdf; ComponentLink3Description: Package Specification; ComponentLink3URL: http://www.ti.com/litv/pdf/mpds092e
footprint TI-DDA8-3025X2335TP_N (SOP, 8-Leads, Body 4.9x3.9mm, Pitch 1.27mm, Thermal Pad 3.025x2.335mm, IPC Medium Density)
footprint TI-DDA8-3025X2335TP_L (SOP, 8-Leads, Body 4.9x3.9mm, Pitch 1.27mm, Thermal Pad 3.025x2.335mm, IPC High Density)
footprint TI-DDA8-3025X2335TP_M (SOP, 8-Leads, Body 4.9x3.9mm, Pitch 1.27mm, Thermal Pad 3.025x2.335mm, IPC Low Density)
pins on every part: 4 VCC- (power), 8 VCC+ (power), 9 EP
part A pins: 1 OUT1 (out), 2 IN1- (in), 3 IN1+ (in)
part B pins: 5 IN2+ (in), 6 IN2- (in), 7 OUT2 (out)

## THS3112CDDAG3
designator U?
Dual, Low-Noise, High Output Current, 110 MHz Amplifier, 10 to 30 V, 0 to 70 degC, 8-pin SOP (DDA8), Green (RoHS & no Sb/Br); Manufacturer: Texas Instruments; PartNumber: THS3112CDDAG3; 2nd Harmonic(dBc): 62; 3rd Harmonic(dBc): 48; @ MHz: 10; Acl, min stable gain(V/V): 1; BW @ Acl(MHz): 110; Diff Gain(%): 0.01; Diff Phase(deg): 0.011; Iib(Max)(nA): 3000; Io(Typ)(mA): 270; Iq per channel(Max)(mA): 7.5; Number of Channels: 2; Settling Time (0.1%)(Typ)(ns): 50; Slew Rate(Typ)(V/us): 1300; Sub Family: High Output Current Amplifier (>=50mA), High Speed Amplifier (>=50MHz), High Supply Voltage Amplifier (>=30V); THD (Fc is 1 MHz)(Typ)(dB): -77; Vio(Max)(mV): 8; Vn at Flatband(Typ)(nV/rtHz): 2.8; Vs(Max)(V): 30; DatasheetVersion: SLOS385C; PackageVersion: 4202561/F, 12/2011; PackageReference: DDA8-3025X2335TP; PackageDescription: 8-Pin PowerPAD(TM) Plastic Small Outline, Body 4.9 x 3.9 mm, Pitch 1.27 mm; Supplier 1: Digi-Key; Supplier Part Number 1: THS3112CDDAG3-ND; Supplier 2: Mouser; Supplier Part Number 2: 595-THS3112CDDAG3; Eco-Plan: Green (RoHS & no Sb/Br); Vs(Min)(V): 10; Mounting Technology: Surface Mount; Code_JEDEC: MS-012; ComponentLink1Description: Manufacturer URL; ComponentLink1URL: http://www.ti.com/; ComponentLink2Description: Datasheet; ComponentLink2URL: http://www.ti.com/general/docs/lit/getliterature.tsp?genericPartNumber=THS3112&fileType=pdf; ComponentLink3Description: Package Specification; ComponentLink3URL: http://www.ti.com/litv/pdf/mpds092e
footprint TI-DDA8-3025X2335TP_N (SOP, 8-Leads, Body 4.9x3.9mm, Pitch 1.27mm, Thermal Pad 3.025x2.335mm, IPC Medium Density)
footprint TI-DDA8-3025X2335TP_L (SOP, 8-Leads, Body 4.9x3.9mm, Pitch 1.27mm, Thermal Pad 3.025x2.335mm, IPC High Density)
footprint TI-DDA8-3025X2335TP_M (SOP, 8-Leads, Body 4.9x3.9mm, Pitch 1.27mm, Thermal Pad 3.025x2.335mm, IPC Low Density)
pins on every part: 4 VCC- (power), 8 VCC+ (power), 9 EP
part A pins: 1 OUT1 (out), 2 IN1- (in), 3 IN1+ (in)
part B pins: 5 IN2+ (in), 6 IN2- (in), 7 OUT2 (out)

## THS3112CDG4
designator U?
Dual, Low-Noise, High Output Current, 110 MHz Amplifier, 10 to 30 V, 0 to 70 degC, 8-pin SOIC (D8), Green (RoHS & no Sb/Br); Manufacturer: Texas Instruments; PartNumber: THS3112CDG4; 2nd Harmonic(dBc): 62; 3rd Harmonic(dBc): 48; @ MHz: 10; Acl, min stable gain(V/V): 1; BW @ Acl(MHz): 110; Diff Gain(%): 0.01; Diff Phase(deg): 0.011; Iib(Max)(nA): 3000; Io(Typ)(mA): 270; Iq per channel(Max)(mA): 7.5; Number of Channels: 2; Settling Time (0.1%)(Typ)(ns): 50; Slew Rate(Typ)(V/us): 1300; Sub Family: High Output Current Amplifier (>=50mA), High Speed Amplifier (>=50MHz), High Supply Voltage Amplifier (>=30V); THD (Fc is 1 MHz)(Typ)(dB): -77; Vio(Max)(mV): 8; Vn at Flatband(Typ)(nV/rtHz): 2.8; Vs(Max)(V): 30; DatasheetVersion: SLOS385C; PackageVersion: 4040047-3/M, 06/2011; PackageReference: D8; PackageDescription: 8-Pin Plastic Small Outline, Body 4.9 x 3.9 mm, Pitch 1.27 mm; Supplier 1: Digi-Key; Supplier Part Number 1: THS3112CDG4-ND; Supplier 2: Mouser; Supplier Part Number 2: 595-THS3112CDG4; Eco-Plan: Green (RoHS & no Sb/Br); Vs(Min)(V): 10; Mounting Technology: Surface Mount; Code_JEDEC: MS-012; ComponentLink1Description: Manufacturer URL; ComponentLink1URL: http://www.ti.com/; ComponentLink2Description: Datasheet; ComponentLink2URL: http://www.ti.com/general/docs/lit/getliterature.tsp?genericPartNumber=THS3112&fileType=pdf; ComponentLink3Description: Package Specification; ComponentLink3URL: http://www.ti.com/litv/pdf/msoi002j
footprint TI-D8_N (SOIC, 8-Leads, Body 4.9x3.9mm, Pitch 1.27mm, IPC Medium Density)
footprint TI-D8_L (SOIC, 8-Leads, Body 4.9x3.9mm, Pitch 1.27mm, IPC High Density)
footprint TI-D8_M (SOIC, 8-Leads, Body 4.9x3.9mm, Pitch 1.27mm, IPC Low Density)
pins on every part: 4 VCC- (power), 8 VCC+ (power)
part A pins: 1 OUT1 (out), 2 IN1- (in), 3 IN1+ (in)
part B pins: 5 IN2+ (in), 6 IN2- (in), 7 OUT2 (out)

## THS3112CDR
designator U?
Dual, Low-Noise, High Output Current, 110 MHz Amplifier, 10 to 30 V, 0 to 70 degC, 8-pin SOIC (D8), Green (RoHS & no Sb/Br); Manufacturer: Texas Instruments; PartNumber: THS3112CDR; 2nd Harmonic(dBc): 62; 3rd Harmonic(dBc): 48; @ MHz: 10; Acl, min stable gain(V/V): 1; BW @ Acl(MHz): 110; Diff Gain(%): 0.01; Diff Phase(deg): 0.011; Iib(Max)(nA): 3000; Io(Typ)(mA): 270; Iq per channel(Max)(mA): 7.5; Number of Channels: 2; Settling Time (0.1%)(Typ)(ns): 50; Slew Rate(Typ)(V/us): 1300; Sub Family: High Output Current Amplifier (>=50mA), High Speed Amplifier (>=50MHz), High Supply Voltage Amplifier (>=30V); THD (Fc is 1 MHz)(Typ)(dB): -77; Vio(Max)(mV): 8; Vn at Flatband(Typ)(nV/rtHz): 2.8; Vs(Max)(V): 30; DatasheetVersion: SLOS385C; PackageVersion: 4040047-3/M, 06/2011; PackageReference: D8; PackageDescription: 8-Pin Plastic Small Outline, Body 4.9 x 3.9 mm, Pitch 1.27 mm; Supplier 1: Digi-Key; Supplier Part Number 1: THS3112CDR-ND; Supplier 2: Mouser; Supplier Part Number 2: 595-THS3112CDR; Eco-Plan: Green (RoHS & no Sb/Br); Vs(Min)(V): 10; Mounting Technology: Surface Mount; Code_JEDEC: MS-012; ComponentLink1Description: Manufacturer URL; ComponentLink1URL: http://www.ti.com/; ComponentLink2Description: Datasheet; ComponentLink2URL: http://www.ti.com/general/docs/lit/getliterature.tsp?genericPartNumber=THS3112&fileType=pdf; ComponentLink3Description: Package Specification; ComponentLink3URL: http://www.ti.com/litv/pdf/msoi002j
footprint TI-D8_N (SOIC, 8-Leads, Body 4.9x3.9mm, Pitch 1.27mm, IPC Medium Density)
footprint TI-D8_L (SOIC, 8-Leads, Body 4.9x3.9mm, Pitch 1.27mm, IPC High Density)
footprint TI-D8_M (SOIC, 8-Leads, Body 4.9x3.9mm, Pitch 1.27mm, IPC Low Density)
pins on every part: 4 VCC- (power), 8 VCC+ (power)
part A pins: 1 OUT1 (out), 2 IN1- (in), 3 IN1+ (in)
part B pins: 5 IN2+ (in), 6 IN2- (in), 7 OUT2 (out)

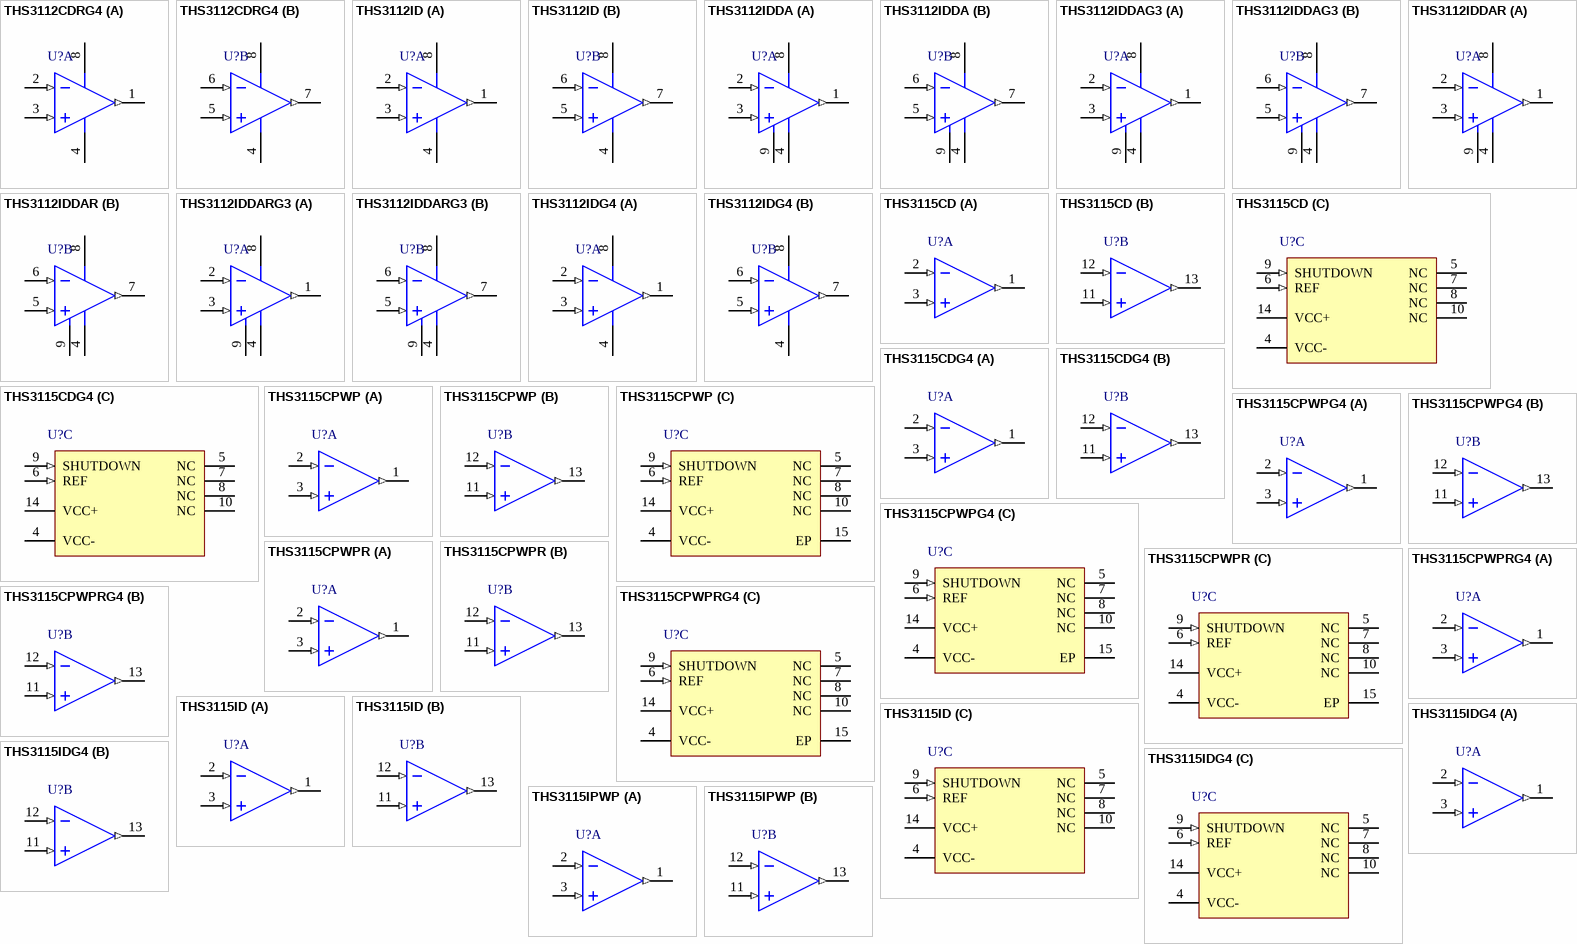
[diagram p27: symbols THS3112CDRG4 to THS3115IPWP]

## THS3112CDRG4
designator U?
Dual, Low-Noise, High Output Current, 110 MHz Amplifier, 10 to 30 V, 0 to 70 degC, 8-pin SOIC (D8), Green (RoHS & no Sb/Br); Manufacturer: Texas Instruments; PartNumber: THS3112CDRG4; 2nd Harmonic(dBc): 62; 3rd Harmonic(dBc): 48; @ MHz: 10; Acl, min stable gain(V/V): 1; BW @ Acl(MHz): 110; Diff Gain(%): 0.01; Diff Phase(deg): 0.011; Iib(Max)(nA): 3000; Io(Typ)(mA): 270; Iq per channel(Max)(mA): 7.5; Number of Channels: 2; Settling Time (0.1%)(Typ)(ns): 50; Slew Rate(Typ)(V/us): 1300; Sub Family: High Output Current Amplifier (>=50mA), High Speed Amplifier (>=50MHz), High Supply Voltage Amplifier (>=30V); THD (Fc is 1 MHz)(Typ)(dB): -77; Vio(Max)(mV): 8; Vn at Flatband(Typ)(nV/rtHz): 2.8; Vs(Max)(V): 30; DatasheetVersion: SLOS385C; PackageVersion: 4040047-3/M, 06/2011; PackageReference: D8; PackageDescription: 8-Pin Plastic Small Outline, Body 4.9 x 3.9 mm, Pitch 1.27 mm; Supplier 1: Digi-Key; Supplier Part Number 1: THS3112CDRG4-ND; Supplier 2: Mouser; Supplier Part Number 2: 595-THS3112CDRG4; Eco-Plan: Green (RoHS & no Sb/Br); Vs(Min)(V): 10; Mounting Technology: Surface Mount; Code_JEDEC: MS-012; ComponentLink1Description: Manufacturer URL; ComponentLink1URL: http://www.ti.com/; ComponentLink2Description: Datasheet; ComponentLink2URL: http://www.ti.com/general/docs/lit/getliterature.tsp?genericPartNumber=THS3112&fileType=pdf; ComponentLink3Description: Package Specification; ComponentLink3URL: http://www.ti.com/litv/pdf/msoi002j
footprint TI-D8_N (SOIC, 8-Leads, Body 4.9x3.9mm, Pitch 1.27mm, IPC Medium Density)
footprint TI-D8_L (SOIC, 8-Leads, Body 4.9x3.9mm, Pitch 1.27mm, IPC High Density)
footprint TI-D8_M (SOIC, 8-Leads, Body 4.9x3.9mm, Pitch 1.27mm, IPC Low Density)
pins on every part: 4 VCC- (power), 8 VCC+ (power)
part A pins: 1 OUT1 (out), 2 IN1- (in), 3 IN1+ (in)
part B pins: 5 IN2+ (in), 6 IN2- (in), 7 OUT2 (out)

## THS3112ID
designator U?
Dual, Low-Noise, High Output Current, 110 MHz Amplifier, 10 to 30 V, -40 to 85 degC, 8-pin SOIC (D8), Green (RoHS & no Sb/Br); Manufacturer: Texas Instruments; PartNumber: THS3112ID; 2nd Harmonic(dBc): 62; 3rd Harmonic(dBc): 48; @ MHz: 10; Acl, min stable gain(V/V): 1; BW @ Acl(MHz): 110; Diff Gain(%): 0.01; Diff Phase(deg): 0.011; Iib(Max)(nA): 3000; Io(Typ)(mA): 270; Iq per channel(Max)(mA): 7.5; Number of Channels: 2; Settling Time (0.1%)(Typ)(ns): 50; Slew Rate(Typ)(V/us): 1300; Sub Family: High Output Current Amplifier (>=50mA), High Speed Amplifier (>=50MHz), High Supply Voltage Amplifier (>=30V); THD (Fc is 1 MHz)(Typ)(dB): -77; Vio(Max)(mV): 8; Vn at Flatband(Typ)(nV/rtHz): 2.8; Vs(Max)(V): 30; DatasheetVersion: SLOS385C; PackageVersion: 4040047-3/M, 06/2011; PackageReference: D8; PackageDescription: 8-Pin Plastic Small Outline, Body 4.9 x 3.9 mm, Pitch 1.27 mm; Supplier 1: Digi-Key; Supplier Part Number 1: 296-13333-5-ND; Supplier 2: Mouser; Supplier Part Number 2: 595-THS3112ID; Eco-Plan: Green (RoHS & no Sb/Br); Vs(Min)(V): 10; Mounting Technology: Surface Mount; Code_JEDEC: MS-012; ComponentLink1Description: Manufacturer URL; ComponentLink1URL: http://www.ti.com/; ComponentLink2Description: Datasheet; ComponentLink2URL: http://www.ti.com/general/docs/lit/getliterature.tsp?genericPartNumber=THS3112&fileType=pdf; ComponentLink3Description: Package Specification; ComponentLink3URL: http://www.ti.com/litv/pdf/msoi002j
footprint TI-D8_N (SOIC, 8-Leads, Body 4.9x3.9mm, Pitch 1.27mm, IPC Medium Density)
footprint TI-D8_L (SOIC, 8-Leads, Body 4.9x3.9mm, Pitch 1.27mm, IPC High Density)
footprint TI-D8_M (SOIC, 8-Leads, Body 4.9x3.9mm, Pitch 1.27mm, IPC Low Density)
pins on every part: 4 VCC- (power), 8 VCC+ (power)
part A pins: 1 OUT1 (out), 2 IN1- (in), 3 IN1+ (in)
part B pins: 5 IN2+ (in), 6 IN2- (in), 7 OUT2 (out)

## THS3112IDDA
designator U?
Dual, Low-Noise, High Output Current, 110 MHz Amplifier, 10 to 30 V, -40 to 85 degC, 8-pin SOP (DDA8), Green (RoHS & no Sb/Br); Manufacturer: Texas Instruments; PartNumber: THS3112IDDA; 2nd Harmonic(dBc): 62; 3rd Harmonic(dBc): 48; @ MHz: 10; Acl, min stable gain(V/V): 1; BW @ Acl(MHz): 110; Diff Gain(%): 0.01; Diff Phase(deg): 0.011; Iib(Max)(nA): 3000; Io(Typ)(mA): 270; Iq per channel(Max)(mA): 7.5; Number of Channels: 2; Settling Time (0.1%)(Typ)(ns): 50; Slew Rate(Typ)(V/us): 1300; Sub Family: High Output Current Amplifier (>=50mA), High Speed Amplifier (>=50MHz), High Supply Voltage Amplifier (>=30V); THD (Fc is 1 MHz)(Typ)(dB): -77; Vio(Max)(mV): 8; Vn at Flatband(Typ)(nV/rtHz): 2.8; Vs(Max)(V): 30; DatasheetVersion: SLOS385C; PackageVersion: 4202561/F, 12/2011; PackageReference: DDA8-3025X2335TP; PackageDescription: 8-Pin PowerPAD(TM) Plastic Small Outline, Body 4.9 x 3.9 mm, Pitch 1.27 mm; Supplier 1: Digi-Key; Supplier Part Number 1: THS3112IDDA-ND; Supplier 2: Mouser; Supplier Part Number 2: 595-THS3112IDDA; Eco-Plan: Green (RoHS & no Sb/Br); Vs(Min)(V): 10; Mounting Technology: Surface Mount; Code_JEDEC: MS-012; ComponentLink1Description: Manufacturer URL; ComponentLink1URL: http://www.ti.com/; ComponentLink2Description: Datasheet; ComponentLink2URL: http://www.ti.com/general/docs/lit/getliterature.tsp?genericPartNumber=THS3112&fileType=pdf; ComponentLink3Description: Package Specification; ComponentLink3URL: http://www.ti.com/litv/pdf/mpds092e
footprint TI-DDA8-3025X2335TP_N (SOP, 8-Leads, Body 4.9x3.9mm, Pitch 1.27mm, Thermal Pad 3.025x2.335mm, IPC Medium Density)
footprint TI-DDA8-3025X2335TP_L (SOP, 8-Leads, Body 4.9x3.9mm, Pitch 1.27mm, Thermal Pad 3.025x2.335mm, IPC High Density)
footprint TI-DDA8-3025X2335TP_M (SOP, 8-Leads, Body 4.9x3.9mm, Pitch 1.27mm, Thermal Pad 3.025x2.335mm, IPC Low Density)
pins on every part: 4 VCC- (power), 8 VCC+ (power), 9 EP
part A pins: 1 OUT1 (out), 2 IN1- (in), 3 IN1+ (in)
part B pins: 5 IN2+ (in), 6 IN2- (in), 7 OUT2 (out)

## THS3112IDDAG3
designator U?
Dual, Low-Noise, High Output Current, 110 MHz Amplifier, 10 to 30 V, -40 to 85 degC, 8-pin SOP (DDA8), Green (RoHS & no Sb/Br); Manufacturer: Texas Instruments; PartNumber: THS3112IDDAG3; 2nd Harmonic(dBc): 62; 3rd Harmonic(dBc): 48; @ MHz: 10; Acl, min stable gain(V/V): 1; BW @ Acl(MHz): 110; Diff Gain(%): 0.01; Diff Phase(deg): 0.011; Iib(Max)(nA): 3000; Io(Typ)(mA): 270; Iq per channel(Max)(mA): 7.5; Number of Channels: 2; Settling Time (0.1%)(Typ)(ns): 50; Slew Rate(Typ)(V/us): 1300; Sub Family: High Output Current Amplifier (>=50mA), High Speed Amplifier (>=50MHz), High Supply Voltage Amplifier (>=30V); THD (Fc is 1 MHz)(Typ)(dB): -77; Vio(Max)(mV): 8; Vn at Flatband(Typ)(nV/rtHz): 2.8; Vs(Max)(V): 30; DatasheetVersion: SLOS385C; PackageVersion: 4202561/F, 12/2011; PackageReference: DDA8-3025X2335TP; PackageDescription: 8-Pin PowerPAD(TM) Plastic Small Outline, Body 4.9 x 3.9 mm, Pitch 1.27 mm; Supplier 1: Digi-Key; Supplier Part Number 1: THS3112IDDAG3-ND; Supplier 2: Mouser; Supplier Part Number 2: 595-THS3112IDDAG3; Eco-Plan: Green (RoHS & no Sb/Br); Vs(Min)(V): 10; Mounting Technology: Surface Mount; Code_JEDEC: MS-012; ComponentLink1Description: Manufacturer URL; ComponentLink1URL: http://www.ti.com/; ComponentLink2Description: Datasheet; ComponentLink2URL: http://www.ti.com/general/docs/lit/getliterature.tsp?genericPartNumber=THS3112&fileType=pdf; ComponentLink3Description: Package Specification; ComponentLink3URL: http://www.ti.com/litv/pdf/mpds092e
footprint TI-DDA8-3025X2335TP_N (SOP, 8-Leads, Body 4.9x3.9mm, Pitch 1.27mm, Thermal Pad 3.025x2.335mm, IPC Medium Density)
footprint TI-DDA8-3025X2335TP_L (SOP, 8-Leads, Body 4.9x3.9mm, Pitch 1.27mm, Thermal Pad 3.025x2.335mm, IPC High Density)
footprint TI-DDA8-3025X2335TP_M (SOP, 8-Leads, Body 4.9x3.9mm, Pitch 1.27mm, Thermal Pad 3.025x2.335mm, IPC Low Density)
pins on every part: 4 VCC- (power), 8 VCC+ (power), 9 EP
part A pins: 1 OUT1 (out), 2 IN1- (in), 3 IN1+ (in)
part B pins: 5 IN2+ (in), 6 IN2- (in), 7 OUT2 (out)

## THS3112IDDAR
designator U?
Dual, Low-Noise, High Output Current, 110 MHz Amplifier, 10 to 30 V, -40 to 85 degC, 8-pin SOP (DDA8), Green (RoHS & no Sb/Br); Manufacturer: Texas Instruments; PartNumber: THS3112IDDAR; 2nd Harmonic(dBc): 62; 3rd Harmonic(dBc): 48; @ MHz: 10; Acl, min stable gain(V/V): 1; BW @ Acl(MHz): 110; Diff Gain(%): 0.01; Diff Phase(deg): 0.011; Iib(Max)(nA): 3000; Io(Typ)(mA): 270; Iq per channel(Max)(mA): 7.5; Number of Channels: 2; Settling Time (0.1%)(Typ)(ns): 50; Slew Rate(Typ)(V/us): 1300; Sub Family: High Output Current Amplifier (>=50mA), High Speed Amplifier (>=50MHz), High Supply Voltage Amplifier (>=30V); THD (Fc is 1 MHz)(Typ)(dB): -77; Vio(Max)(mV): 8; Vn at Flatband(Typ)(nV/rtHz): 2.8; Vs(Max)(V): 30; DatasheetVersion: SLOS385C; PackageVersion: 4202561/F, 12/2011; PackageReference: DDA8-3025X2335TP; PackageDescription: 8-Pin PowerPAD(TM) Plastic Small Outline, Body 4.9 x 3.9 mm, Pitch 1.27 mm; Supplier 1: Digi-Key; Supplier Part Number 1: 296-13334-2-ND; Supplier 2: Digi-Key; Supplier Part Number 2: 296-13334-1-ND; Supplier 3: Digi-Key; Supplier Part Number 3: 296-13334-6-ND; Supplier 4: Mouser; Supplier Part Number 4: 595-THS3112IDDAR; Eco-Plan: Green (RoHS & no Sb/Br); Vs(Min)(V): 10; Mounting Technology: Surface Mount; Code_JEDEC: MS-012; ComponentLink1Description: Manufacturer URL; ComponentLink1URL: http://www.ti.com/; ComponentLink2Description: Datasheet; ComponentLink2URL: http://www.ti.com/general/docs/lit/getliterature.tsp?genericPartNumber=THS3112&fileType=pdf; ComponentLink3Description: Package Specification; ComponentLink3URL: http://www.ti.com/litv/pdf/mpds092e
footprint TI-DDA8-3025X2335TP_N (SOP, 8-Leads, Body 4.9x3.9mm, Pitch 1.27mm, Thermal Pad 3.025x2.335mm, IPC Medium Density)
footprint TI-DDA8-3025X2335TP_L (SOP, 8-Leads, Body 4.9x3.9mm, Pitch 1.27mm, Thermal Pad 3.025x2.335mm, IPC High Density)
footprint TI-DDA8-3025X2335TP_M (SOP, 8-Leads, Body 4.9x3.9mm, Pitch 1.27mm, Thermal Pad 3.025x2.335mm, IPC Low Density)
pins on every part: 4 VCC- (power), 8 VCC+ (power), 9 EP
part A pins: 1 OUT1 (out), 2 IN1- (in), 3 IN1+ (in)
part B pins: 5 IN2+ (in), 6 IN2- (in), 7 OUT2 (out)